# Altium footprint library TSSOP14.PcbLib: 1 footprints
Each footprint in its own frame and in the unit in brackets; x right, y up, seen from the top. Pads: shape width x height; smd on the part's side, far side on the other; paste and mask are expansions set on the pad; w line width, h text height; cw(c..) or ccw(c..) is an arc to the next point about the centre after c.
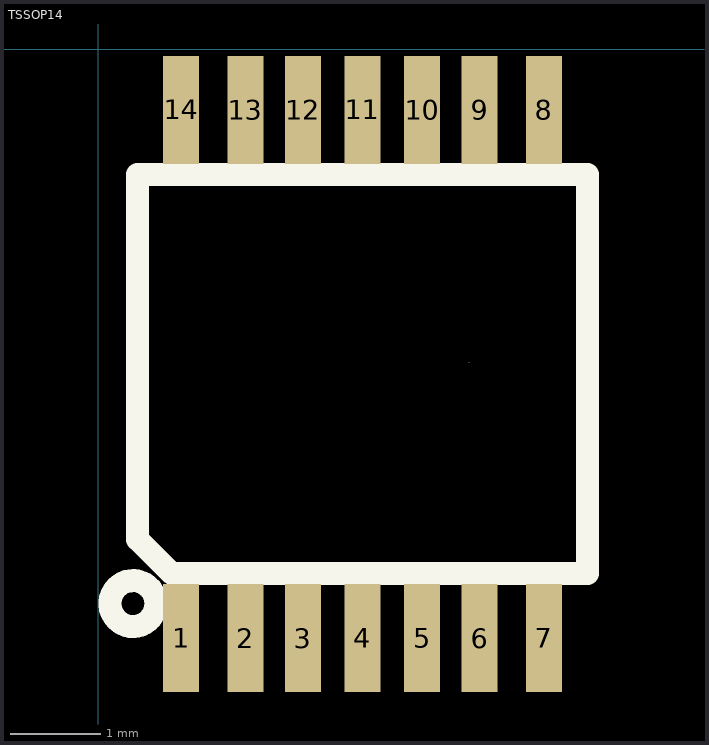
[diagram p0: the footprint, top view; thin cyan lines are the x and y axes]

## TSSOP14 [mil]
pads (14):
  rect 15.7x47.2 smd paste+0 mask+2: 1(36,-256.4) 2(64,-256.4) 3(89,-256.4) 4(115,-256.4) 5(141,-256.4) 6(166,-256.4) 7(194,-256.4) 8(194,-26.4) 9(166,-26.4) 10(141,-26.4) 11(115,-26.4) 12(89,-26.4) 13(64,-26.4) 14(36,-26.4)
Top Overlay:
  circle w10: c15,-241.4 r10
  lines w10: 17,-213.4 17,-54.4 213,-54.4 213,-228.4 32,-228.4 17,-213.4
Mechanical 15:
  lines w0.1: 161.49,-136.41 161.51,-136.39